# Altium integrated library 06035C104K4T2A.IntLib: 1 symbol
Pins are listed as number, name and electrical type; pins without a type are passive.

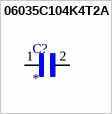
[diagram p0: symbol 06035C104K4T2A]

## 06035C104K4T2A
designator C?
Capacitor MLCC 0603 100nF 50V; MP: 06035C104K4T2A; Package: None; Price: None; Value: *; Availability: Unavailable
footprint CAPC1608X90N
pins: 1, 2